# Altium footprint library KEYSTONE_1514.PcbLib: 1 footprints
Each footprint in its own frame and in the unit in brackets; x right, y up, seen from the top. Pads: shape width x height; smd on the part's side, far side on the other; paste and mask are expansions set on the pad; w line width, h text height; cw(c..) or ccw(c..) is an arc to the next point about the centre after c.
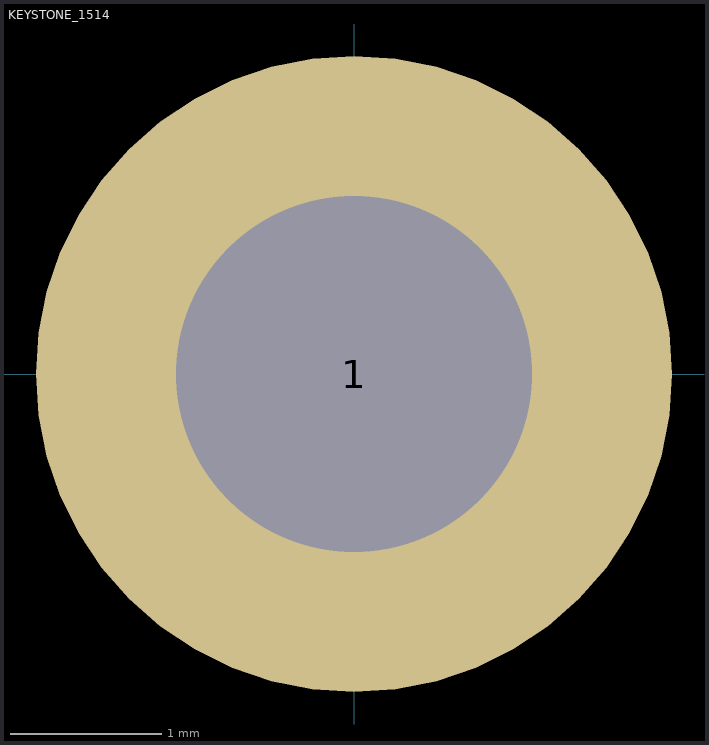
[diagram p0: the footprint, top view; thin cyan lines are the x and y axes]

## KEYSTONE_1514 [mm]
pads (1):
  round 4.2 hole 2.35: 1(0,0)
3D body "KEYSTONE_1514-2.SLDPRT": height 7.2, standoff -2.8, extent -2,-2 2,2